# EAGLE library part ESP-11 (library MyComponents)
ESP8266 WiFi Module ESP-11
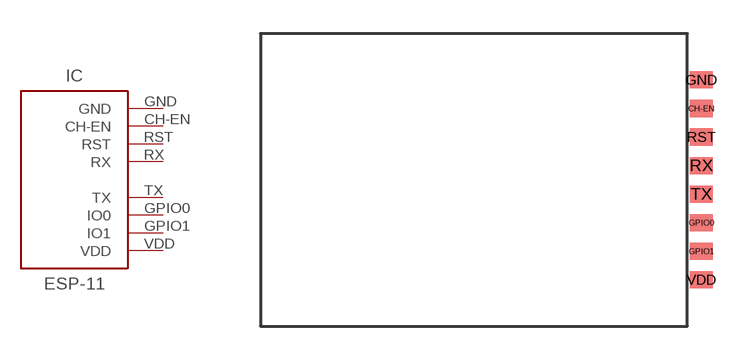
[diagram p3: symbol with the pads of ESP-11; footprint ESP-11]

Designator prefix IC

## ESP-11  [ESP-11]
CH-EN  CH-EN
GND  GND
GPIO0  IO0
GPIO1  IO1
RST  RST
RX  RX
TX  TX
VDD  VDD

## Footprint ESP-11 (pad centres in mm)
smd 1.016 x 0.762: CH-EN 9.525,3.175; GND 9.525,4.445; GPIO0 9.525,-1.905; GPIO1 9.525,-3.175; RST 9.525,1.905; RX 9.525,0.635; TX 9.525,-0.635; VDD 9.525,-4.445